# Altium schematic symbol library FerriteBead.SchLib: 1 symbol
Pins are listed as number, name and electrical type; pins without a type are passive.

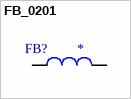
[diagram p0: symbol FB_0201]

## FB_0201
designator FB?, comment ERP_103-3  (value not drawn)
FERRITE BEAD 0201; ERP: *; Manufacturer Part Number 1: *; Manufacturer 1: *; Package: 0201; Value: *
footprint INDC0603X03L (Chip Inductor, 2-Leads, Body 0.60x0.30mm, IPC High Density)
pins: 1, 2